# EAGLE library part LTC2067HDD#PBF (library LTC2067HDD#PBF)
IC OPAMP ZERO-DRIFT 2 CIRC 10DFN Source: Datasheet <https://componentsearchengine.com/Datasheets/1/LTC2067HDD#PBF.pdf>
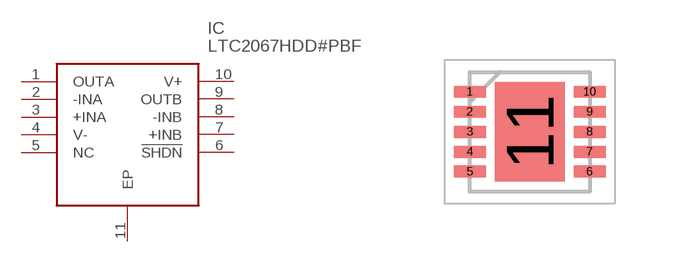
[diagram p0: symbol with the pads of SON50P300X300X80-11N; footprint SON50P300X300X80-11N]

Designator prefix IC

## LTC2067HDD#PBF (Description: IC OPAMP ZERO-DRIFT 2 CIRC 10DFN; Height: 0.8mm; Manufacturer_Name: Analog Devices; Manufacturer_Part_Number: LTC2067HDD#PBF; Mouser_Part_Number: 584-LTC2067HDD#PBF; Mouser_Price-Stock: https://www.mouser.com/Search/Refine.aspx?Keyword=584-LTC2067HDD%23PBF)  [SON50P300X300X80-11N]
1  OUTA
2  -INA
3  +INA
4  V-
5  NC  nc
6  !SHDN
7  +INB
8  -INB
9  OUTB
10  V+
11  EP

## Footprint SON50P300X300X80-11N (pad centres in mm)
10-Lead (3mm × 3mm) Plastic DFN
smd 0.8 x 0.3: 1 -1.5,1; 2 -1.5,0.5; 3 -1.5,0; 4 -1.5,-0.5; 5 -1.5,-1; 6 1.5,-1; 7 1.5,-0.5; 8 1.5,0; 9 1.5,0.5; 10 1.5,1
smd 1.75 x 2.48: 11 0,0